# Altium schematic symbol library E220Lora.SchLib: 1 symbol
Pins are listed as number, name and electrical type; pins without a type are passive.

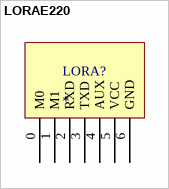
[diagram p0: symbol LORAE220]

## LORAE220
designator LORA?
footprint E220EBYTE
pins: 0 M0, 1 M1, 2 RXD, 3 TXD, 4 AUX, 5 VCC, 6 GND